# EAGLE library part 690368170672 (library Wurth_Elektronik_Electromechanic_Board_to_Board_Connectors_rev16a)
WR-MM Female Angled Connector with Polarization and without Latch, 6 Pins=>Code : Con_BTB_MM_Female_THT_Ang_690368170672 <http://katalog.we-online.de/media/thumbs2/eican/thb_Con_BTB_MM_Female_THT_Ang_69036817xx72_pf2.jpg> Details see: http://katalog.we-online.de/en/em/6903_6817_xx_72 Created 2014-06-04, Karrer Zheng 2014 (C) Würth Elektronik
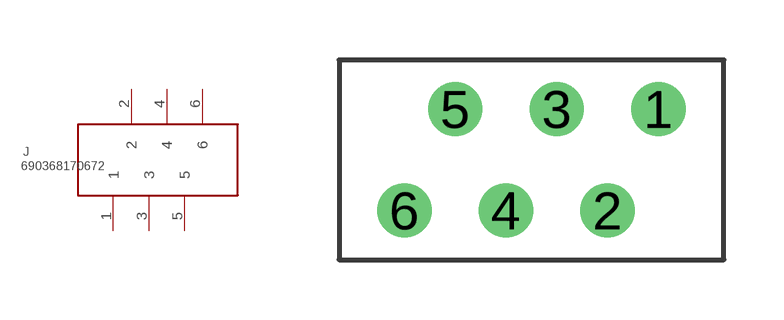
[diagram p387: symbol with the pads of 690368170672; footprint 690368170672]

Designator prefix J

## 690368170672  [690368170672]
1  1  pas
2  2  pas
3  3  pas
4  4  pas
5  5  pas
6  6  pas

## Footprint 690368170672 (pad centres in mm)
WR-MM Female Angled Connector with Polarization and without Latch, 6 Pins
drill 0.85: 1 4.445,1.27; 2 3.175,-1.27; 3 1.905,1.27; 4 0.635,-1.27; 5 -0.635,1.27; 6 -1.905,-1.27